# EAGLE library part DIL28 (library HW2)
Dual In Line
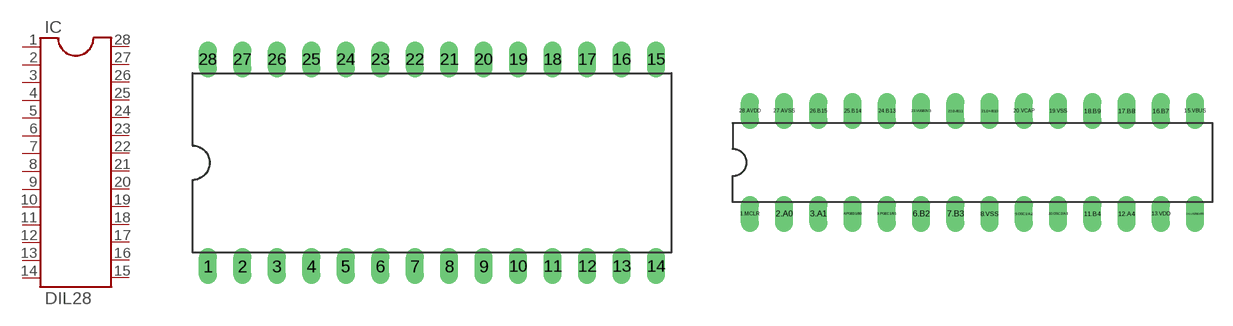
[diagram p0: symbol with the pads of DIL28-6; footprints DIL28-6, DIL28-3]

Designator prefix IC

## DIL28  [DIL28-6]
1  1.MCLR  pas
2  2  pas
3  3  pas
4  4  pas
5  5  pas
6  6  pas
7  7  pas
8  8  pas
9  9  pas
10  10  pas
11  11  pas
12  12  pas
13  13  pas
14  14  pas
15  15  pas
16  16  pas
17  17  pas
18  18  pas
19  19  pas
20  20  pas
21  21  pas
22  22  pas
23  23  pas
24  24  pas
25  25  pas
26  26  pas
27  27  pas
28  28  pas

## DIL28-3  [DIL28-3]
1.MCLR  1.MCLR  pas
2.A0  2  pas
3.A1  3  pas
4.PGED1/B0  4  pas
5.PGEC1/B1  5  pas
6.B2  6  pas
7.B3  7  pas
8.VSS  8  pas
9.OSC1/A2  9  pas
10.OSC2/A3  10  pas
11.B4  11  pas
12.A4  12  pas
13.VDD  13  pas
14.USBID/B5  14  pas
15.VBUS  15  pas
16.B7  16  pas
17.B8  17  pas
18.B9  18  pas
19.VSS  19  pas
20.VCAP  20  pas
21.D+/B10  21  pas
22.D-/B11  22  pas
23.VUSB3V3  23  pas
24.B13  24  pas
25.B14  25  pas
26.B15  26  pas
27.AVSS  27  pas
28.AVDD  28  pas

## DIL28-4  [DIL28-4]
Pads as for DIL28-6

## Footprint DIL28-6 (pad centres in mm)
Dual In Line Package 0.6 inch
drill 0.813 long: 1 -16.51,-7.62; 2 -13.97,-7.62; 3 -11.43,-7.62; 4 -8.89,-7.62; 5 -6.35,-7.62; 6 -3.81,-7.62; 7 -1.27,-7.62; 8 1.27,-7.62; 9 3.81,-7.62; 10 6.35,-7.62; 11 8.89,-7.62; 12 11.43,-7.62; 13 13.97,-7.62; 14 16.51,-7.62; 15 16.51,7.62; 16 13.97,7.62; 17 11.43,7.62; 18 8.89,7.62; 19 6.35,7.62; 20 3.81,7.62; 21 1.27,7.62; 22 -1.27,7.62; 23 -3.81,7.62; 24 -6.35,7.62; 25 -8.89,7.62; 26 -11.43,7.62; 27 -13.97,7.62; 28 -16.51,7.62

## Footprint DIL28-3 (pad centres in mm)
Dual In Line Package Small
drill 0.813 long: 1.MCLR -16.51,-3.81; 2.A0 -13.97,-3.81; 3.A1 -11.43,-3.81; 4.PGED1/B0 -8.89,-3.81; 5.PGEC1/B1 -6.35,-3.81; 6.B2 -3.81,-3.81; 7.B3 -1.27,-3.81; 8.VSS 1.27,-3.81; 9.OSC1/A2 3.81,-3.81; 10.OSC2/A3 6.35,-3.81; 11.B4 8.89,-3.81; 12.A4 11.43,-3.81; 13.VDD 13.97,-3.81; 14.USBID/B5 16.51,-3.81; 15.VBUS 16.51,3.81; 16.B7 13.97,3.81; 17.B8 11.43,3.81; 18.B9 8.89,3.81; 19.VSS 6.35,3.81; 20.VCAP 3.81,3.81; 21.D+/B10 1.27,3.81; 22.D-/B11 -1.27,3.81; 23.VUSB3V3 -3.81,3.81; 24.B13 -6.35,3.81; 25.B14 -8.89,3.81; 26.B15 -11.43,3.81; 27.AVSS -13.97,3.81; 28.AVDD -16.51,3.81

## Footprint DIL28-4 (pad centres in mm)
Dual In Line Package
drill 0.813 long: 1 -16.51,-5.08; 2 -13.97,-5.08; 3 -11.43,-5.08; 4 -8.89,-5.08; 5 -6.35,-5.08; 6 -3.81,-5.08; 7 -1.27,-5.08; 8 1.27,-5.08; 9 3.81,-5.08; 10 6.35,-5.08; 11 8.89,-5.08; 12 11.43,-5.08; 13 13.97,-5.08; 14 16.51,-5.08; 15 16.51,5.08; 16 13.97,5.08; 17 11.43,5.08; 18 8.89,5.08; 19 6.35,5.08; 20 3.81,5.08; 21 1.27,5.08; 22 -1.27,5.08; 23 -3.81,5.08; 24 -6.35,5.08; 25 -8.89,5.08; 26 -11.43,5.08; 27 -13.97,5.08; 28 -16.51,5.08